# EAGLE library part TPS84320_RUQ_47 (library Strutz Electronic Industries)
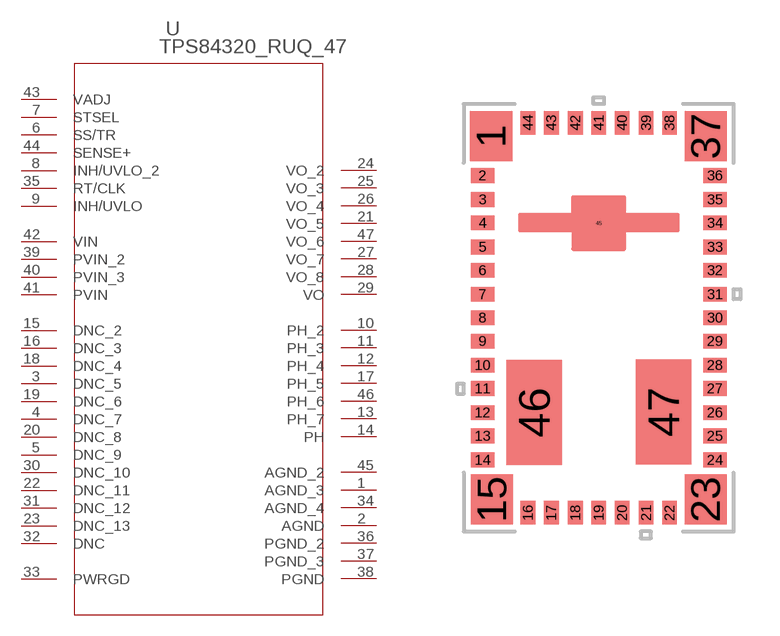
[diagram p24: symbol with the pads of RUQ_47; footprint RUQ_47]

Designator prefix U

## TPS84320_RUQ_47 (MANUFACTURER_PART_NUMBER: tps84320_ruq_47; VENDOR: TEXAS INSTRUMENTS)  [RUQ_47]
1  AGND_3  pwr
2  AGND  pwr
3  DNC_5  nc
4  DNC_7  nc
5  DNC_9  nc
6  SS/TR  pas
7  STSEL  pas
8  INH/UVLO_2  pas
9  INH/UVLO  pas
10  PH_2  pas
11  PH_3  pas
12  PH_4  pas
13  PH_7  pas
14  PH  pas
15  DNC_2  nc
16  DNC_3  nc
17  PH_5  pas
18  DNC_4  nc
19  DNC_6  nc
20  DNC_8  nc
21  VO_5  out
22  DNC_11  nc
23  DNC_13  nc
24  VO_2  out
25  VO_3  out
26  VO_4  out
27  VO_7  out
28  VO_8  out
29  VO  out
30  DNC_10  nc
31  DNC_12  nc
32  DNC  nc
33  PWRGD  pwr
34  AGND_4  pwr
35  RT/CLK  pas
36  PGND_2  pwr
37  PGND_3  pwr
38  PGND  pwr
39  PVIN_2  in
40  PVIN_3  in
41  PVIN  in
42  VIN  in
43  VADJ  pas
44  SENSE+  pas
45  AGND_2  pwr
46  PH_6  pas
47  VO_6  out

## Footprint RUQ_47 (pad centres in mm)
smd 1.6 x 1.905: 1 -4.089,6.909; 15 -4.064,-6.909; 23 4.064,-6.909; 37 4.064,6.909
smd 0.889 x 0.559: 2 -4.42,5.41; 3 -4.42,4.496; 4 -4.42,3.607; 5 -4.42,2.692; 6 -4.42,1.803; 7 -4.42,0.889; 8 -4.42,0; 9 -4.42,-0.889; 10 -4.42,-1.803; 11 -4.42,-2.692; 12 -4.42,-3.607; 13 -4.42,-4.496; 14 -4.42,-5.41; 24 4.42,-5.41; 25 4.42,-4.496; 26 4.42,-3.607; 27 4.42,-2.692; 28 4.42,-1.803; 29 4.42,-0.889; 30 4.42,0; 31 4.42,0.889; 32 4.42,1.803; 33 4.42,2.692; 34 4.42,3.607; 35 4.42,4.496; 36 4.42,5.41
smd 0.559 x 0.889: 16 -2.692,-7.417; 17 -1.803,-7.417; 18 -0.889,-7.417; 19 0,-7.417; 20 0.889,-7.417; 21 1.803,-7.417; 22 2.692,-7.417; 38 2.692,7.417; 39 1.803,7.417; 40 0.889,7.417; 41 0,7.417; 42 -0.889,7.417; 43 -1.803,7.417; 44 -2.692,7.417
smd 0.102 x 0.102: 45 0,3.581
smd 2.108 x 3.988: 46 -2.464,-3.607; 47 2.464,-3.581